# Altium schematic symbol library environmentalAccelerometer.SchLib: 2 symbols
Pins are listed as number, name and electrical type; pins without a type are passive.

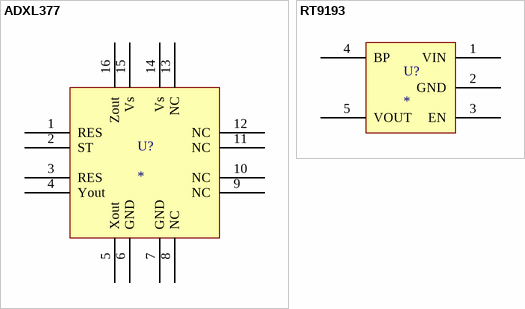
[diagram p0: symbols ADXL377 to RT9193]

## ADXL377
designator U?
footprint ADXL377
pins: 1 RES, 2 ST, 3 RES, 4 Yout, 5 Xout, 6 GND, 7 GND, 8 NC, 9 NC, 10 NC, 11 NC, 12 NC, 13 NC, 14 Vs, 15 Vs, 16 Zout

## RT9193
designator U?
footprint RT9193
pins: 1 VIN, 2 GND, 3 EN, 4 BP, 5 VOUT